# EAGLE library part ADAFRUIT_ULTIMATE_GPS_BREAKOUT_66_CHANNEL_W_10_HZ_UPDATES (library Adafruit)
Adafruit Ultimate GPS Breakout - 66 channel w/10 Hz updates Adafruit Ultimate GPS Breakout - 66 channel w/10 Hz updates Further information:http://adafru.it/746 Cost:$39.95
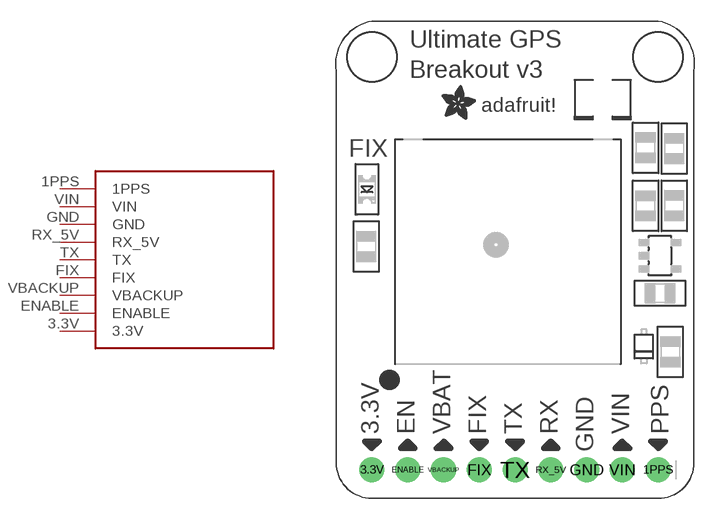
[diagram p0: symbol with the pads of ADAFRUIT_ULTIMATE_GPS_BREAKOUT_66_CHANNEL_W_10_HZ_UPDATES; footprint ADAFRUIT_ULTIMATE_GPS_BREAKOUT_66_CHANNEL_W_10_HZ_UPDATES]

Designator prefix -

## ADAFRUIT_ULTIMATE_GPS_BREAKOUT_66_CHANNEL_W_10_HZ_UPDATES-BOB  [ADAFRUIT_ULTIMATE_GPS_BREAKOUT_66_CHANNEL_W_10_HZ_UPDATES]
1PPS  1PPS
3.3V  3.3V
ENABLE  ENABLE
FIX  FIX
GND  GND
RX_5V  RX_5V
TX  TX
VBACKUP  VBACKUP
VIN  VIN

## Footprint ADAFRUIT_ULTIMATE_GPS_BREAKOUT_66_CHANNEL_W_10_HZ_UPDATES (pad centres in mm)
drill 1 pad 1.778: 1PPS 22.86,2.032; 3.3V 2.54,2.032; ENABLE 5.08,2.032; FIX 10.16,2.032; GND 17.78,2.032; RX_5V 15.24,2.032; TX 12.7,2.032; VBACKUP 7.62,2.032; VIN 20.32,2.032